# EAGLE library part 690368191672 (library Wuerth_Elektronik_eiCan_MiniModule_Connectors_v1.2)
WR-MM Female Angled Connector with Latch and with Polarization, 16 Pins
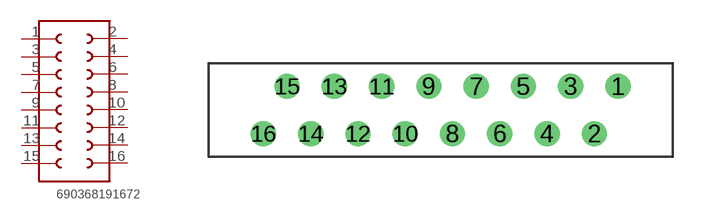
[diagram p27: symbol with the pads of 690368191672; footprint 690368191672]

Designator prefix K

## 690368191672  [690368191672]
1  1  pas
2  16  pas
3  2  pas
4  15  pas
5  3  pas
6  14  pas
7  4  pas
8  13  pas
9  5  pas
10  12  pas
11  6  pas
12  11  pas
13  7  pas
14  10  pas
15  8  pas
16  9  pas

## Footprint 690368191672 (pad centres in mm)
WR-MM Female Angled Connector with Latch and with Polarization, 16 Pins
drill 0.85 round: 1 9.525,1.27; 2 8.255,-1.27; 3 6.985,1.27; 4 5.715,-1.27; 5 4.445,1.27; 6 3.175,-1.27; 7 1.905,1.27; 8 0.635,-1.27; 9 -0.635,1.27; 10 -1.905,-1.27; 11 -3.175,1.27; 12 -4.445,-1.27; 13 -5.715,1.27; 14 -6.985,-1.27; 15 -8.255,1.27; 16 -9.525,-1.27